# Altium schematic symbol library MuseumsShop.SchLib: 79 symbols
Pins are listed as number, name and electrical type; pins without a type are passive.

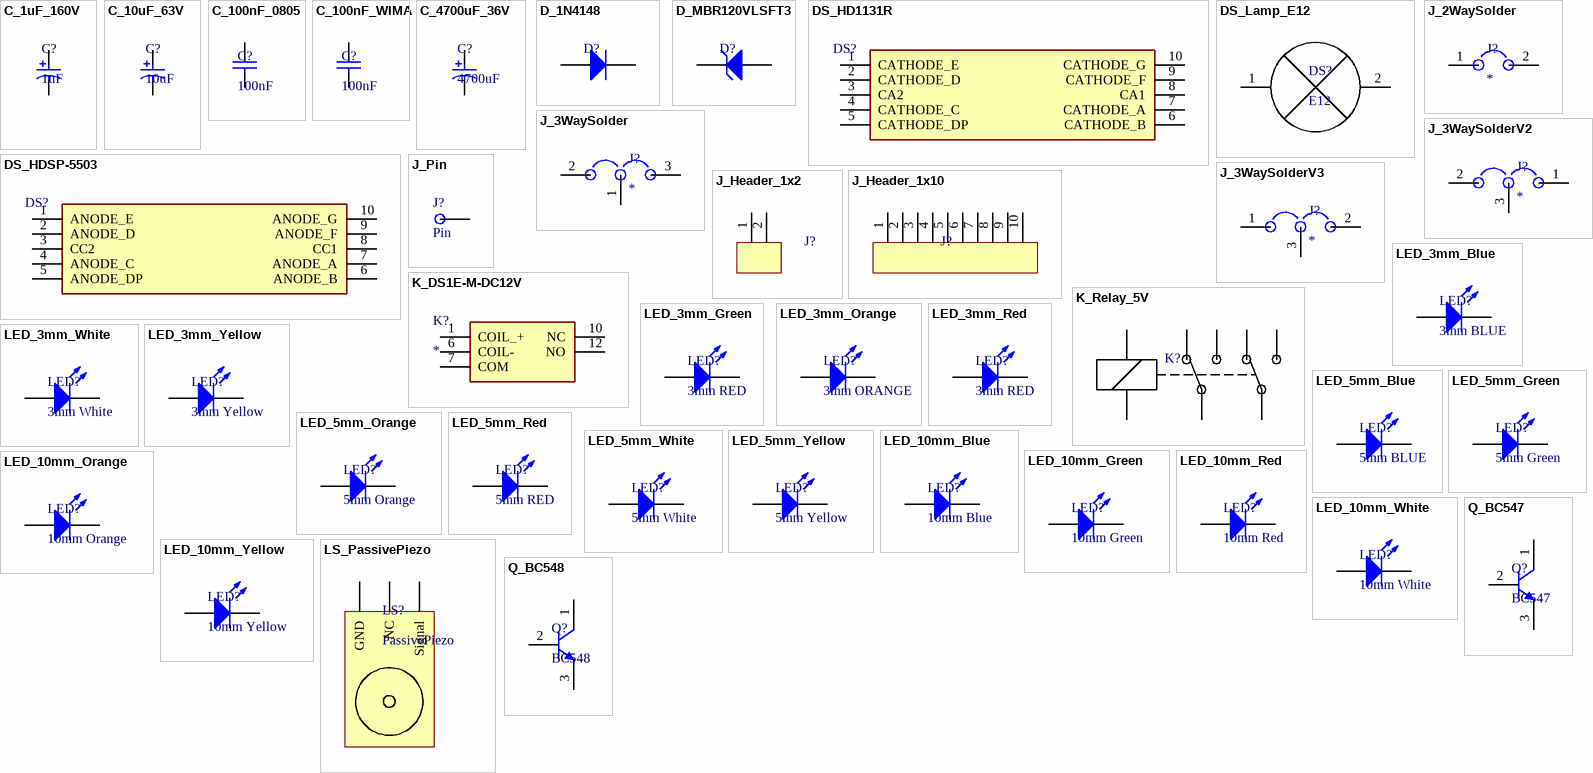
[diagram p0: symbols C_1uF_160V to Q_BC548]

## C_1uF_160V
designator C?, comment 1uF
Elko, Radial
footprint Elko_2.5mm Pitch
pins: 1, 2

## C_10uF_63V
designator C?, comment 10uF
Elko, Radial
footprint Elko_2.5mm Pitch
pins: 1, 2

## C_100nF_0805
designator C?, comment 100nF
value: 100nF
footprint 0805
pins: 1, 2

## C_100nF_WIMA
designator C?, comment 100nF
value: 100nF
footprint WIMA_5.04mm
pins: 1, 2

## C_4700uF_36V
designator C?, comment 4700uF
Elko, Radial
footprint Elko_7.62mm Pitch
pins: 1, 2

## D_1N4148
designator D?, comment 1N4148  (value not drawn)
footprint DO-35
pins: 1 K, 2 A

## D_MBR120VLSFT3
designator D?, comment MBR120VLSFT3  (value not drawn)
footprint SOD-123FL
pins: 1 K, 2 A

## DS_HD1131R
designator DS?
Common Anode Rot; Manufacturer_Name: Avago Technologies; Height: 8mm; Mouser Part Number: 630-HDSP-5503; Mouser Price/Stock: https://www.mouser.com/Search/Refine.aspx?Keyword=630-HDSP-5503; Manufacturer_Part_Number: HDSP-5503
footprint DIPS1524W51P254L1257H800Q10N
pins: 1 CATHODE_E, 2 CATHODE_D, 3 CA2, 4 CATHODE_C, 5 CATHODE_DP, 6 CATHODE_B, 7 CATHODE_A, 8 CA1, 9 CATHODE_F, 10 CATHODE_G

## DS_HDSP-5503
designator DS?
Common Cathode Rot; Manufacturer_Name: Avago Technologies; Height: 8mm; Mouser Part Number: 630-HDSP-5503; Mouser Price/Stock: https://www.mouser.com/Search/Refine.aspx?Keyword=630-HDSP-5503; Manufacturer_Part_Number: HDSP-5503
footprint DIPS1524W51P254L1257H800Q10N
pins: 1 ANODE_E, 2 ANODE_D, 3 CC2, 4 ANODE_C, 5 ANODE_DP, 6 ANODE_B, 7 ANODE_A, 8 CC1, 9 ANODE_F, 10 ANODE_G

## DS_Lamp_E12
designator DS?, comment E12
footprint E12_Lampenfassung
pins: 1, 2

## J_2WaySolder
designator J?
footprint 2WaySolderJumper
pins: 1, 2

## J_3WaySolder
designator J?
footprint 3WaySolderJumper
pins: 1, 2, 3

## J_3WaySolderV2
designator J?
footprint 3WaySolderJumper
pins: 1, 2, 3

## J_3WaySolderV3
designator J?
footprint 3WaySolderJumper
pins: 1, 2, 3

## J_Header_1x2
designator J?
footprint HEADER_1x2
pins: 1, 2

## J_Header_1x10
designator J?
footprint HEADER_1x10
pins: 1, 2, 3, 4, 5, 6, 7, 8, 9, 10

## J_Pin
designator J?, comment Pin
footprint Pin
pins: 1

## K_DS1E-M-DC12V
designator K?
Relay or Contactor; Manufacturer_Name: Panasonic; Manufacturer_Part_Number: DS1E-M-DC12V; Allied_Number: 70158600; Datasheet Link: https://media.digikey.com/pdf/Data%20Sheets/Panasonic%20Electric%20Works%20PDFs/DS%20SERIES.pdf; Height: 9.9mm; Mouser Part Number: 769-DS1E-M-DC12V; Mouser Price/Stock: https://www.mouser.com/Search/Refine.aspx?Keyword=769-DS1E-M-DC12V; RS Part Number: 8154896; RS Price/Stock: https://uk.rs-online.com/web/p/products/8154896; Allied Price/Stock: https://www.alliedelec.com/panasonic-ds1e-m-dc12v/70158600/
footprint DS1EMDC24V
pins: 1 COIL_+, 6 COIL-, 7 COM, 10 NC, 12 NO

## K_Relay_5V
designator K?
footprint RELAY_8_PIN
pins: 1 15, 2 16, 4 19, 5 A1, 6 B1, 7, 8 20, 9 21

## LED_3mm_Blue
designator LED?, comment 3mm BLUE
THT LED 3mm Blue; Color: Blue
footprint LED-3mm
pins: 1 K, 2 A

## LED_3mm_Green
designator LED?, comment 3mm RED
THT LED 3mm Green; Color: Green
footprint LED-3mm
pins: 1 K, 2 A

## LED_3mm_Orange
designator LED?, comment 3mm ORANGE
THT LED 3mm Orange; Color: Orange
footprint LED-3mm
pins: 1 K, 2 A

## LED_3mm_Red
designator LED?, comment 3mm RED
THT LED 3mm Red; Color: Red
footprint LED-3mm
pins: 1 K, 2 A

## LED_3mm_White
designator LED?, comment 3mm White
THT LED 3mm White; Color: White
footprint LED-3mm
pins: 1 K, 2 A

## LED_3mm_Yellow
designator LED?, comment 3mm Yellow
THT LED 3mm Yellow; Color: Yellow
footprint LED-3mm
pins: 1 K, 2 A

## LED_5mm_Blue
designator LED?, comment 5mm BLUE
THT LED 5mm Blue; Color: Blue
footprint LED-5mm
pins: 1 K, 2 A

## LED_5mm_Green
designator LED?, comment 5mm Green
THT LED 5mm Green; Color: Green
footprint LED-5mm
pins: 1 K, 2 A

## LED_5mm_Orange
designator LED?, comment 5mm Orange
THT LED 5mm ORANGE; Color: Orange
footprint LED-5mm
pins: 1 K, 2 A

## LED_5mm_Red
designator LED?, comment 5mm RED
THT LED 5mm Red; Color: Red
footprint LED-5mm
pins: 1 K, 2 A

## LED_5mm_White
designator LED?, comment 5mm White
THT LED 5mm White; Color: White
footprint LED-5mm
pins: 1 K, 2 A

## LED_5mm_Yellow
designator LED?, comment 5mm Yellow
THT LED 5mm Yellow; Color: Yellow
footprint LED-5mm
pins: 1 K, 2 A

## LED_10mm_Blue
designator LED?, comment 10mm Blue
THT LED 10mm Blue; Color: Blue
footprint LED-10mm
pins: 1 K, 2 A

## LED_10mm_Green
designator LED?, comment 10mm Green
THT LED 10mm Green; Color: Green
footprint LED-10mm
pins: 1 K, 2 A

## LED_10mm_Orange
designator LED?, comment 10mm Orange
THT LED 10mm ORANGE; Color: Orange
footprint LED-10mm
pins: 1 K, 2 A

## LED_10mm_Red
designator LED?, comment 10mm Red
THT LED 10mm Red; Color: Red
footprint LED-5mm
pins: 1 K, 2 A

## LED_10mm_White
designator LED?, comment 10mm White
THT LED 10mm White; Color: White
footprint LED-10mm
pins: 1 K, 2 A

## LED_10mm_Yellow
designator LED?, comment 10mm Yellow
THT LED 10mm Yellow; Color: Yellow
footprint LED-10mm
pins: 1 K, 2 A

## LS_PassivePiezo
designator LS?, comment PassivePiezo
footprint Piezzo
pins: 1 GND, 2 NC, 3 Signal

## Q_BC547
designator Q?, comment BC547
NPN Silicon, 3-Pin TO-92, Bulk Box
footprint TO-92
pins: 1 C, 2 B, 3 E

## Q_BC548
designator Q?, comment BC548
NPN Silicon, 3-Pin TO-92, Bulk Box
footprint TO-92
pins: 1 C, 2 B, 3 E

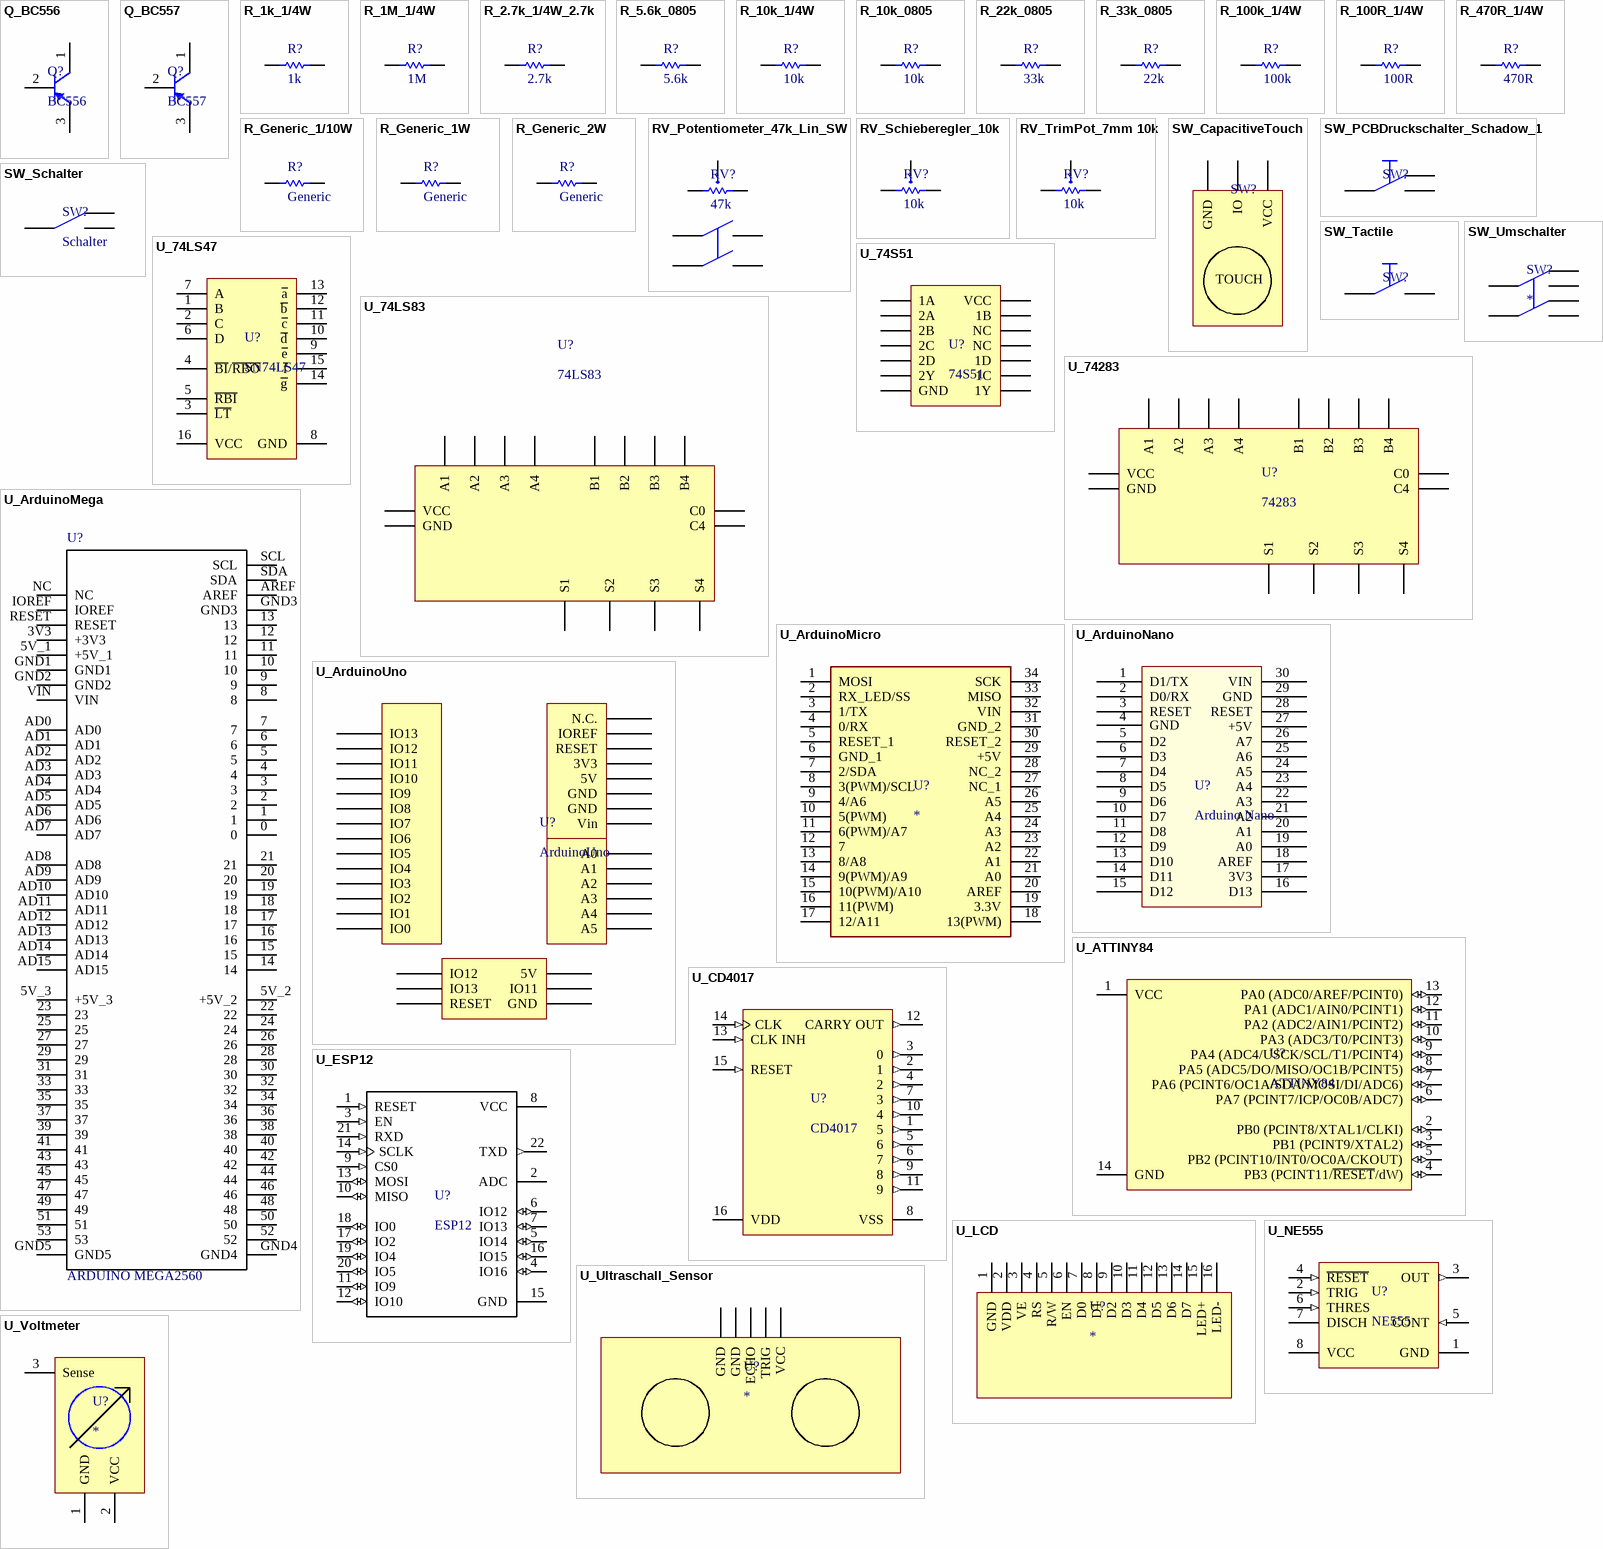
[diagram p1: symbols Q_BC556 to U_Voltmeter]

## Q_BC556
designator Q?, comment BC556
PNP Silicon, 3-Pin TO-92, Pb-Free, Bulk Box
footprint TO-92
pins: 1 C, 2 B, 3 E

## Q_BC557
designator Q?, comment BC557
PNP Silicon, 3-Pin TO-92, Pb-Free, Bulk Box
footprint TO-92
pins: 1 C, 2 B, 3 E

## R_1k_1/4W
designator R?, comment 1k
Generic Resistor 1/4W; value: 1k
footprint RES_1/4W
pins: 1, 2

## R_1M_1/4W
designator R?, comment 1M
Generic Resistor 1/4W; value: 1M
footprint RES_1/4W
pins: 1, 2

## R_2.7k_1/4W_2.7k
designator R?, comment 2.7k
Generic Resistor 1/4W; value: 2.7k
footprint RES_1/4W
pins: 1, 2

## R_5.6k_0805
designator R?, comment 5.6k
footprint 0805
pins: 1, 2

## R_10k_1/4W
designator R?, comment 10k
Generic Resistor 1/4W; value: 10k
footprint RES_1/4W
pins: 1, 2

## R_10k_0805
designator R?, comment 10k
footprint 0805
pins: 1, 2

## R_22k_0805
designator R?, comment 33k
footprint 0805
pins: 1, 2

## R_33k_0805
designator R?, comment 22k
footprint 0805
pins: 1, 2

## R_100k_1/4W
designator R?, comment 100k
Generic Resistor 1/4W; value: 100k
footprint RES_1/4W
pins: 1, 2

## R_100R_1/4W
designator R?, comment 100R
Generic Resistor 1/4W; value: 100R
footprint RES_1/4W
pins: 1, 2

## R_470R_1/4W
designator R?, comment 470R
Generic Resistor 1/4W; value: 470R
footprint RES_1/4W
pins: 1, 2

## R_Generic_1/10W
designator R?, comment Generic
Generic Resistor 1/10W; value: Generic
footprint RES_1/10W
pins: 1, 2

## R_Generic_1W
designator R?, comment Generic
Generic Resistor 1W; value: Generic
footprint RES_1W
pins: 1, 2

## R_Generic_2W
designator R?, comment Generic
Generic Resistor 2W; value: Generic
footprint RES_2W
pins: 1, 2

## RV_Potentiometer_47k_Lin_SW
designator RV?, comment 47k
47k LIN mit Switch
footprint Potentiometer mit SW
pins: 1, 2, 3, 4, 5, 6, 7

## RV_Schieberegler_10k
designator RV?, comment 10k
10k Lin Schieberegler
footprint Schieberegler1
pins: 1, 2, 3

## RV_TrimPot_7mm 10k
designator RV?, comment 10k
footprint TrimpotSmall
pins: 1, 2, 3

## SW_CapacitiveTouch
designator SW?, comment Capacitive Touch Sensor  (value not drawn)
2V-5.5V
footprint CapacitiveTouch
pins: 1 GND, 2 IO, 3 VCC
text: TOUCH

## SW_PCBDruckschalter_Schadow_1
designator SW?
Schadow / Druckschalter momentan
footprint Druckschalter Schadow
pins: 1, 2, 3

## SW_Schalter
designator SW?, comment Schalter
footprint Schalter
pins: 1, 2, 3

## SW_Tactile
designator SW?
Tactile Switch
footprint Tactile Switch
pins: 1, 3

## SW_Umschalter
designator SW?
footprint Umschalter
pins: 1, 2, 3, 4, 5, 6

## U_74LS47
designator U?, comment SN74LS47
BCD to 7 Segment LED
footprint DIP-16
pins: 1 B, 2 C, 3 ~{LT}, 4 ~{BI}/~{RBO}, 5 ~{RBI}, 6 D, 7 A, 8 GND (power), 9 ~{e}, 10 ~{d}, 11 ~{c}, 12 ~{b}, 13 ~{a}, 14 ~{g}, 15 ~{f}, 16 VCC (power)

## U_74LS83
designator U?, comment 74LS83
4-Bit binary Full Adde
footprint DIP-16
pins: 1 A4, 2 S3, 3 A3, 4 B3, 5 VCC, 6 S2, 7 B2, 8 A2, 9 S1, 10 A1, 11 B1, 12 GND, 13 C0, 14 C4, 15 S4, 16 B4

## U_74S51
designator U?, comment 74S51
AND-OR-Invert Gates
footprint DIP-14
pins: 1 1A, 2 2A, 3 2B, 4 2C, 5 2D, 6 2Y, 7 GND, 8 1Y, 9 1C, 10 1D, 11 NC, 12 NC, 13 1B, 14 VCC

## U_74283
designator U?, comment 74283
pins: 1 S2, 2 B2, 3 A2, 4 S1, 5 A1, 6 B1, 7 C0, 8 GND, 9 C4, 10 S4, 11 B4, 12 A4, 13 S3, 14 A3, 15 B3, 16 VCC

## U_ArduinoMega
designator U?, comment ARDUINO MEGA2560
Dev.kit: Arduino; SPI, TWI, UART; ICSP, USB B, pin strips, supply; MP: ARDUINO MEGA2560 REV3 - RETAIL; Price: None; MF: Arduino; Package: None; Availability: Unavailable; SnapEDA_Link: https://www.snapeda.com/parts/ARDUINO%20MEGA2560%20REV3%20-%20RETAIL/Arduino/view-part/?ref=snap; Value: *
footprint Arduino Mega
pins: 0, 1, 2, 3, 3V3 +3V3, 4, 5, 5V_1 +5V_1, 5V_2 +5V_2, 5V_3 +5V_3, 6, 7, 8, 9, 10, 11, 12, 13, 14, 15, 16, 17, 18, 19, 20, 21, 22, 23, 24, 25, 26, 27, 28, 29, 30, 31, 32, 33, 34, 35, 36, 37, 38, 39, 40, 41, 42, 43, 44, 45, 46, 47, 48, 49, 50, 51, 52, 53, AD0, AD1, AD2, AD3, AD4, AD5, AD6, AD7, AD8, AD9, AD10, AD11, AD12, AD13, AD14, AD15, AREF, GND1, GND2, GND3, GND4, GND5, IOREF, NC, RESET, SCL, SDA, VIN

## U_ArduinoMicro
designator U?
pins: 1 MOSI, 2 RX_LED/SS, 3 1/TX, 4 0/RX, 5 RESET_1, 6 GND_1 (power), 7 2/SDA, 8 3(PWM)/SCL, 9 4/A6, 10 5(PWM), 11 6(PWM)/A7, 12 7, 13 8/A8, 14 9(PWM)/A9, 15 10(PWM)/A10, 16 11(PWM), 17 12/A11, 18 13(PWM), 19 3.3V, 20 AREF, 21 A0, 22 A1, 23 A2, 24 A3, 25 A4, 26 A5, 27 NC_1, 28 NC_2, 29 +5V, 30 RESET_2, 31 GND_2, 32 VIN, 33 MISO, 34 SCK

## U_ArduinoNano
designator U?, comment Arduino Nano
footprint Arduino Nano
pins: 1 D1/TX, 2 D0/RX, 3 RESET, 4 GND, 5 D2, 6 D3, 7 D4, 8 D5, 9 D6, 10 D7, 11 D8, 12 D9, 13 D10, 14 D11, 15 D12, 16 D13, 17 3V3, 18 AREF, 19 A0, 20 A1, 21 A2, 22 A3, 23 A4, 24 A5, 25 A6, 26 A7, 27 +5V, 28 RESET, 29 GND, 30 VIN

## U_ArduinoUno
designator U?, comment ArduinoUno
footprint Arduino Uno
pins: 0 IO0, 1 IO1, 2 IO2, 3 IO3, 3V3, 4 IO4, 5 IO5, 5V, 6 IO6, 7 IO7, 8 IO8, 9 IO9, 10 IO10, 11 IO11, 12 IO12, 13 IO13, A0, A1, A2, A3, A4, A5, GND1 GND, GND2 GND, ICSP1 IO12, ICSP2 5V, ICSP3 IO13, ICSP4 IO11, ICSP5 RESET, ICSP6 GND, IOREF, NC N.C., RESET, Vin

## U_ATTINY84
designator U?, comment ATTINY84
footprint DIP-14
pins: 1 VCC (power), 2 PB0 (PCINT8/XTAL1/CLKI) (io), 3 PB1 (PCINT9/XTAL2) (io), 4 PB3 (PCINT11/~{RESET}/dW) (io), 5 PB2 (PCINT10/INT0/OC0A/CKOUT) (io), 6 PA7 (PCINT7/ICP/OC0B/ADC7) (io), 7 PA6 (PCINT6/OC1A/SDA/MOSI/DI/ADC6) (io), 8 PA5 (ADC5/DO/MISO/OC1B/PCINT5) (io), 9 PA4 (ADC4/USCK/SCL/T1/PCINT4) (io), 10 PA3 (ADC3/T0/PCINT3) (io), 11 PA2 (ADC2/AIN1/PCINT2) (io), 12 PA1 (ADC1/AIN0/PCINT1) (io), 13 PA0 (ADC0/AREF/PCINT0) (io), 14 GND (power)

## U_CD4017
designator U?, comment CD4017
CMOS Decade Counter with 10 Decoded Outputs, N0016A, TUBE
footprint DIP-16
pins: 1 5 (out), 2 1 (out), 3 0 (out), 4 2 (out), 5 6 (out), 6 7 (out), 7 3 (out), 8 VSS (power), 9 8 (out), 10 4 (out), 11 9 (out), 12 CARRY OUT (out), 13 CLK INH (in), 14 CLK (in), 15 RESET (in), 16 VDD (power)

## U_ESP12
designator U?, comment ESP12
footprint ESP12
pins: 1 RESET (in), 2 ADC, 3 EN (in), 4 IO16 (io), 5 IO14 (io), 6 IO12 (io), 7 IO13 (io), 8 VCC (power), 9 CS0 (in), 10 MISO (io), 11 IO9 (io), 12 IO10 (io), 13 MOSI (io), 14 SCLK (in), 15 GND (power), 16 IO15 (io), 17 IO2 (io), 18 IO0 (io), 19 IO4 (io), 20 IO5 (io), 21 RXD (in), 22 TXD (out)

## U_LCD
designator U?
footprint LCD
pins: 1 GND, 2 VDD, 3 VE, 4 RS, 5 R/W, 6 EN, 7 D0, 8 D1, 9 D2, 10 D3, 11 D4, 12 D5, 13 D6, 14 D7, 15 LED+, 16 LED-

## U_NE555
designator U?, comment NE555
Precision Timer, 4.5 to 16 V, 0 to 70 degC, 8-Pin DIP, Pb-Free, Tube
footprint DIP-8
pins: 1 GND (power), 2 TRIG (in), 3 OUT (out), 4 ~{RESET} (in), 5 CONT (in), 6 THRES (in), 7 DISCH (oc), 8 VCC (power)

## U_Ultraschall_Sensor
designator U?
footprint US_Sensor
pins: 1 GND, 2 GND, 3 ECHO, 4 TRIG, 5 VCC

## U_Voltmeter
designator U?
footprint voltmeter
pins: 1 GND, 2 VCC, 3 Sense